# EAGLE library part AR0331 (library NicksParts)
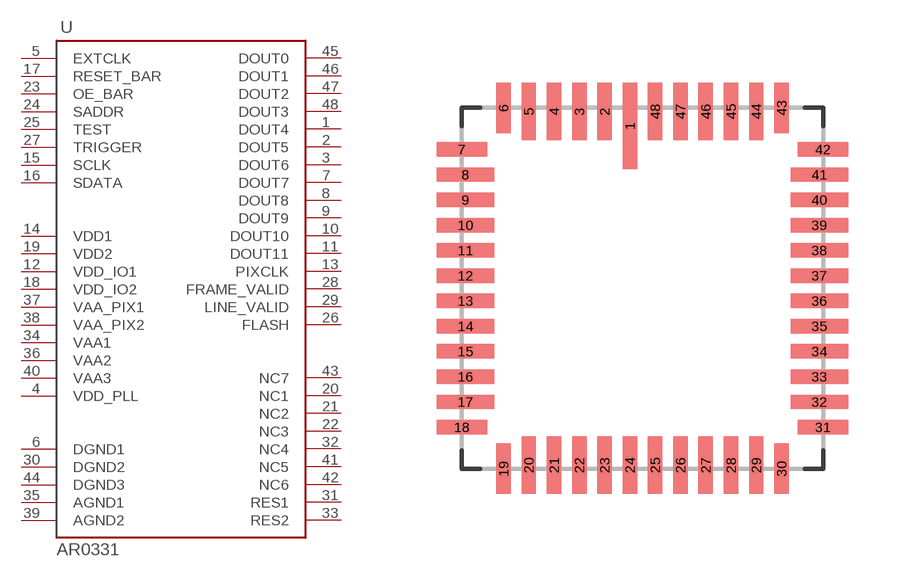
[diagram p0: symbol with the pads of ILCC48; footprint ILCC48]

Designator prefix U

## AR0331  [ILCC48]
1  DOUT4  out
2  DOUT5  out
3  DOUT6  out
4  VDD_PLL  pwr
5  EXTCLK  in
6  DGND1  pwr
7  DOUT7  out
8  DOUT8  out
9  DOUT9  out
10  DOUT10  out
11  DOUT11  out
12  VDD_IO1  pwr
13  PIXCLK  out
14  VDD1  pwr
15  SCLK  in
16  SDATA  in
17  RESET_BAR  in
18  VDD_IO2  pwr
19  VDD2  pwr
20  NC1  nc
21  NC2  nc
22  NC3  nc
23  OE_BAR  in
24  SADDR  in
25  TEST  in
26  FLASH  out
27  TRIGGER  in
28  FRAME_VALID  out
29  LINE_VALID  out
30  DGND2  pwr
31  RES1  nc
32  NC4  nc
33  RES2  nc
34  VAA1  pwr
35  AGND1  pwr
36  VAA2  pwr
37  VAA_PIX1  pwr
38  VAA_PIX2  pwr
39  AGND2  pwr
40  VAA3  pwr
41  NC5  nc
42  NC6  nc
43  NC7  out
44  DGND3  pwr
45  DOUT0  out
46  DOUT1  out
47  DOUT2  out
48  DOUT3  out

## Footprint ILCC48 (pad centres in mm)
smd 0.4 x 2.4: 1 -0.35,4.5
smd 0.4 x 1.6: 2 -1.05,4.9; 3 -1.75,4.9; 4 -2.45,4.9; 5 -3.15,4.9; 20 -3.15,-4.9; 21 -2.45,-4.9; 22 -1.75,-4.9; 23 -1.05,-4.9; 24 -0.35,-4.9; 25 0.35,-4.9; 26 1.05,-4.9; 27 1.75,-4.9; 28 2.45,-4.9; 29 3.15,-4.9; 44 3.15,4.9; 45 2.45,4.9; 46 1.75,4.9; 47 1.05,4.9; 48 0.35,4.9
smd 0.4 x 1.4: 6 -3.85,5; 19 -3.85,-5; 30 3.85,-5; 43 3.85,5
smd 1.4 x 0.4: 7 -5,3.85; 18 -5,-3.85; 31 5,-3.85; 42 5,3.85
smd 1.6 x 0.4: 8 -4.9,3.15; 9 -4.9,2.45; 10 -4.9,1.75; 11 -4.9,1.05; 12 -4.9,0.35; 13 -4.9,-0.35; 14 -4.9,-1.05; 15 -4.9,-1.75; 16 -4.9,-2.45; 17 -4.9,-3.15; 32 4.9,-3.15; 33 4.9,-2.45; 34 4.9,-1.75; 35 4.9,-1.05; 36 4.9,-0.35; 37 4.9,0.35; 38 4.9,1.05; 39 4.9,1.75; 40 4.9,2.45; 41 4.9,3.15